# EAGLE library part ATSAMD51J20A-A (library SparkFun-IC-Microcontroller)
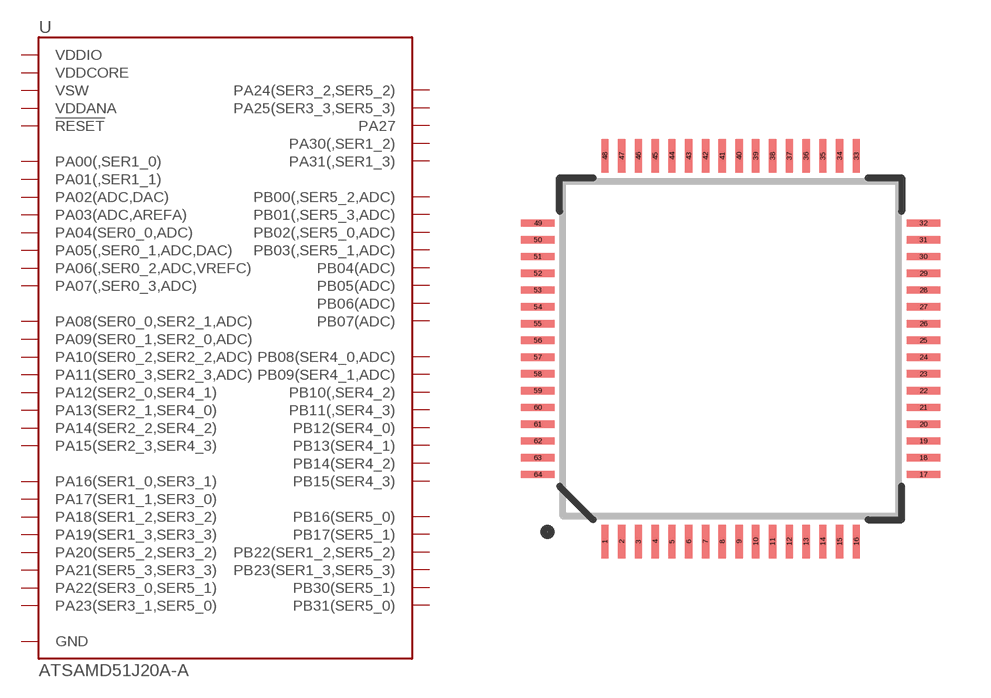
[diagram p29: symbol with the pads of TQFP64; footprint TQFP64]

Designator prefix U

## ATSAMD51J20A-A (PROD_ID: IC-13952)  [TQFP64]
1  PA00(,SER1_0)
2  PA01(,SER1_1)
3  PA02(ADC,DAC)
4  PA03(ADC,AREFA)
5  PB04(ADC)
6  PB05(ADC)
7  GND
8  VDDANA
9  PB06(ADC)
10  PB07(ADC)
11  PB08(SER4_0,ADC)
12  PB09(SER4_1,ADC)
13  PA04(SER0_0,ADC)
14  PA05(,SER0_1,ADC,DAC)
15  PA06(,SER0_2,ADC,VREFC)
16  PA07(,SER0_3,ADC)
17  PA08(SER0_0,SER2_1,ADC)
18  PA09(SER0_1,SER2_0,ADC)
19  PA10(SER0_2,SER2_2,ADC)
20  PA11(SER0_3,SER2_3,ADC)
21  VDDIO
22  GND
23  PB10(,SER4_2)
24  PB11(,SER4_3)
25  PB12(SER4_0)
26  PB13(SER4_1)
27  PB14(SER4_2)
28  PB15(SER4_3)
29  PA12(SER2_0,SER4_1)
30  PA13(SER2_1,SER4_0)
31  PA14(SER2_2,SER4_2)
32  PA15(SER2_3,SER4_3)
33  GND
34  VDDIO
35  PA16(SER1_0,SER3_1)
36  PA17(SER1_1,SER3_0)
37  PA18(SER1_2,SER3_2)
38  PA19(SER1_3,SER3_3)
39  PB16(SER5_0)
40  PB17(SER5_1)
41  PA20(SER5_2,SER3_2)
42  PA21(SER5_3,SER3_3)
43  PA22(SER3_0,SER5_1)
44  PA23(SER3_1,SER5_0)
45  PA24(SER3_2,SER5_2)
46  PA25(SER3_3,SER5_3)
47  GND
48  VDDIO
49  PB22(SER1_2,SER5_2)
50  PB23(SER1_3,SER5_3)
51  PA27
52  !RESET
53  VDDCORE
54  GND
55  VSW
56  VDDIO
57  PA30(,SER1_2)
58  PA31(,SER1_3)
59  PB30(SER5_1)
60  PB31(SER5_0)
61  PB00(,SER5_2,ADC)
62  PB01(,SER5_3,ADC)
63  PB02(,SER5_0,ADC)
64  PB03(,SER5_1,ADC)

## Footprint TQFP64 (pad centres in mm)
64-Lead TQFP Plastic Thin Quad Flatpack - 10x10x1mm Body, 2mmFP
smd 0.22 x 1: 1 -3.75,-5.75; 2 -3.25,-5.75; 3 -2.75,-5.75; 4 -2.25,-5.75; 5 -1.75,-5.75; 6 -1.25,-5.75; 7 -0.75,-5.75; 8 -0.25,-5.75; 9 0.25,-5.75; 10 0.75,-5.75; 11 1.25,-5.75; 12 1.75,-5.75; 13 2.25,-5.75; 14 2.75,-5.75; 15 3.25,-5.75; 16 3.75,-5.75; 33 3.75,5.75; 34 3.25,5.75; 35 2.75,5.75; 36 2.25,5.75; 37 1.75,5.75; 38 1.25,5.75; 39 0.75,5.75; 40 0.25,5.75; 41 -0.25,5.75; 42 -0.75,5.75; 43 -1.25,5.75; 44 -1.75,5.75; 45 -2.25,5.75; 46 -2.75,5.75; 47 -3.25,5.75; 48 -3.75,5.75
smd 1 x 0.22: 17 5.75,-3.75; 18 5.75,-3.25; 19 5.75,-2.75; 20 5.75,-2.25; 21 5.75,-1.75; 22 5.75,-1.25; 23 5.75,-0.75; 24 5.75,-0.25; 25 5.75,0.25; 26 5.75,0.75; 27 5.75,1.25; 28 5.75,1.75; 29 5.75,2.25; 30 5.75,2.75; 31 5.75,3.25; 32 5.75,3.75; 49 -5.75,3.75; 50 -5.75,3.25; 51 -5.75,2.75; 52 -5.75,2.25; 53 -5.75,1.75; 54 -5.75,1.25; 55 -5.75,0.75; 56 -5.75,0.25; 57 -5.75,-0.25; 58 -5.75,-0.75; 59 -5.75,-1.25; 60 -5.75,-1.75; 61 -5.75,-2.25; 62 -5.75,-2.75; 63 -5.75,-3.25; 64 -5.75,-3.75